# Altium footprint library RES.PcbLib: 1 footprints
Each footprint in its own frame and in the unit in brackets; x right, y up, seen from the top. Pads: shape width x height; smd on the part's side, far side on the other; paste and mask are expansions set on the pad; w line width, h text height; cw(c..) or ccw(c..) is an arc to the next point about the centre after c.
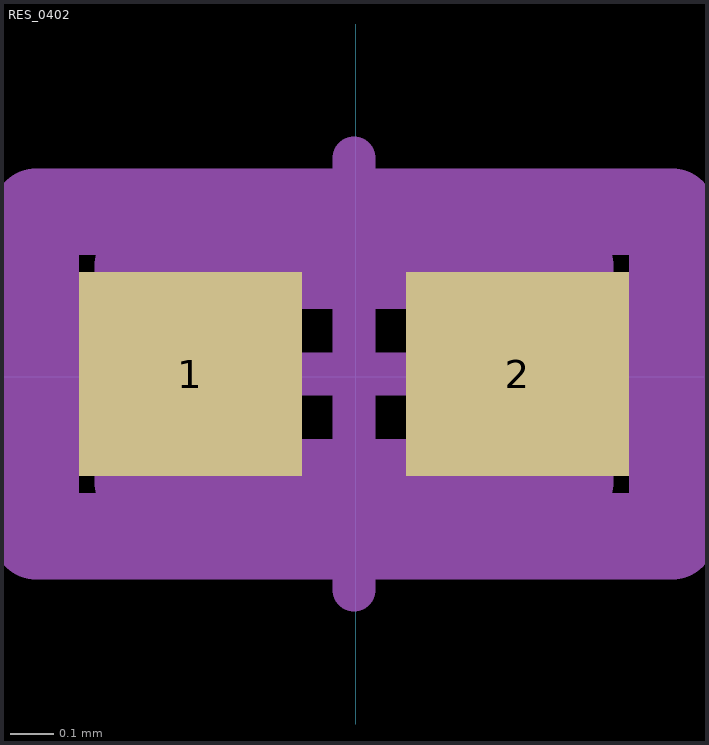
[diagram p0: the footprint, top view; thin cyan lines are the x and y axes]

## RES_0402 [mm]
pads (2):
  rect 0.515x0.472 smd paste+0 mask+0: 1(-0.382,0.006) 2(0.375,0.006)
Top Courtyard:
  lines w0.2: -0.74,-0.369 0.733,-0.369 0.733,0.381 -0.74,0.381 -0.74,-0.369
Top Assembly:
  lines w0.2: -0.74,-0.369 0.733,-0.369 0.733,0.381 -0.74,0.381 -0.74,-0.369
Top 3D Body:
  lines w0.2: -0.504,-0.244 0.496,-0.244 0.496,0.256 -0.504,0.256 -0.504,-0.244
Top Component Center:
  lines w0.1: -0.504,0.006 0.496,0.006 ; -0.004,-0.494 -0.004,0.506
3D body "Res_Yageo_AC0402FR-0716R2L_eec.STEP": height 0.25, standoff 0, extent -0.74,-0.369 0.733,0.381